# Altium schematic symbol library TESEO-LIV4FTR.SchLib: 1 symbol
Pins are listed as number, name and electrical type; pins without a type are passive.

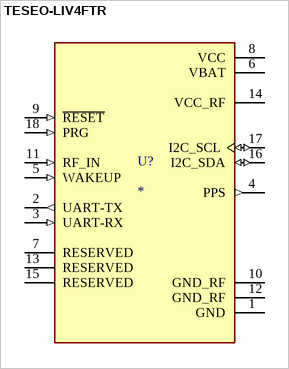
[diagram p0: symbol TESEO-LIV4FTR]

## TESEO-LIV4FTR
designator U?
- RF Receiver BeiDou, Galileo, GLONASS, GNSS, GPS Not Included 18-LCC (9.7x10.1); MF: STMicroelectronics; MP: TESEO-LIV4FTR; SnapEDA_Link: https://www.snapeda.com/parts/TESEO-LIV4FTR/STMicroelectronics/view-part/?ref=snap; Package: None; Value: *; Check_prices: https://www.snapeda.com/parts/TESEO-LIV4FTR/STMicroelectronics/view-part/?ref=eda
footprint XCVR_TESEO-LIV4FTR
pins: 1 GND (power), 2 UART-TX (out), 3 UART-RX (in), 4 PPS (out), 5 WAKEUP (in), 6 VBAT (power), 7 RESERVED, 8 VCC (power), 9 ~{RESET} (in), 10 GND_RF (power), 11 RF_IN (in), 12 GND_RF (power), 13 RESERVED, 14 VCC_RF (power), 15 RESERVED, 16 I2C_SDA (io), 17 I2C_SCL (io), 18 PRG (in)